# Altium integrated library TI Amplifiers and Linear Special Function Amplifier.IntLib: 708 symbols (part 8 of 47)
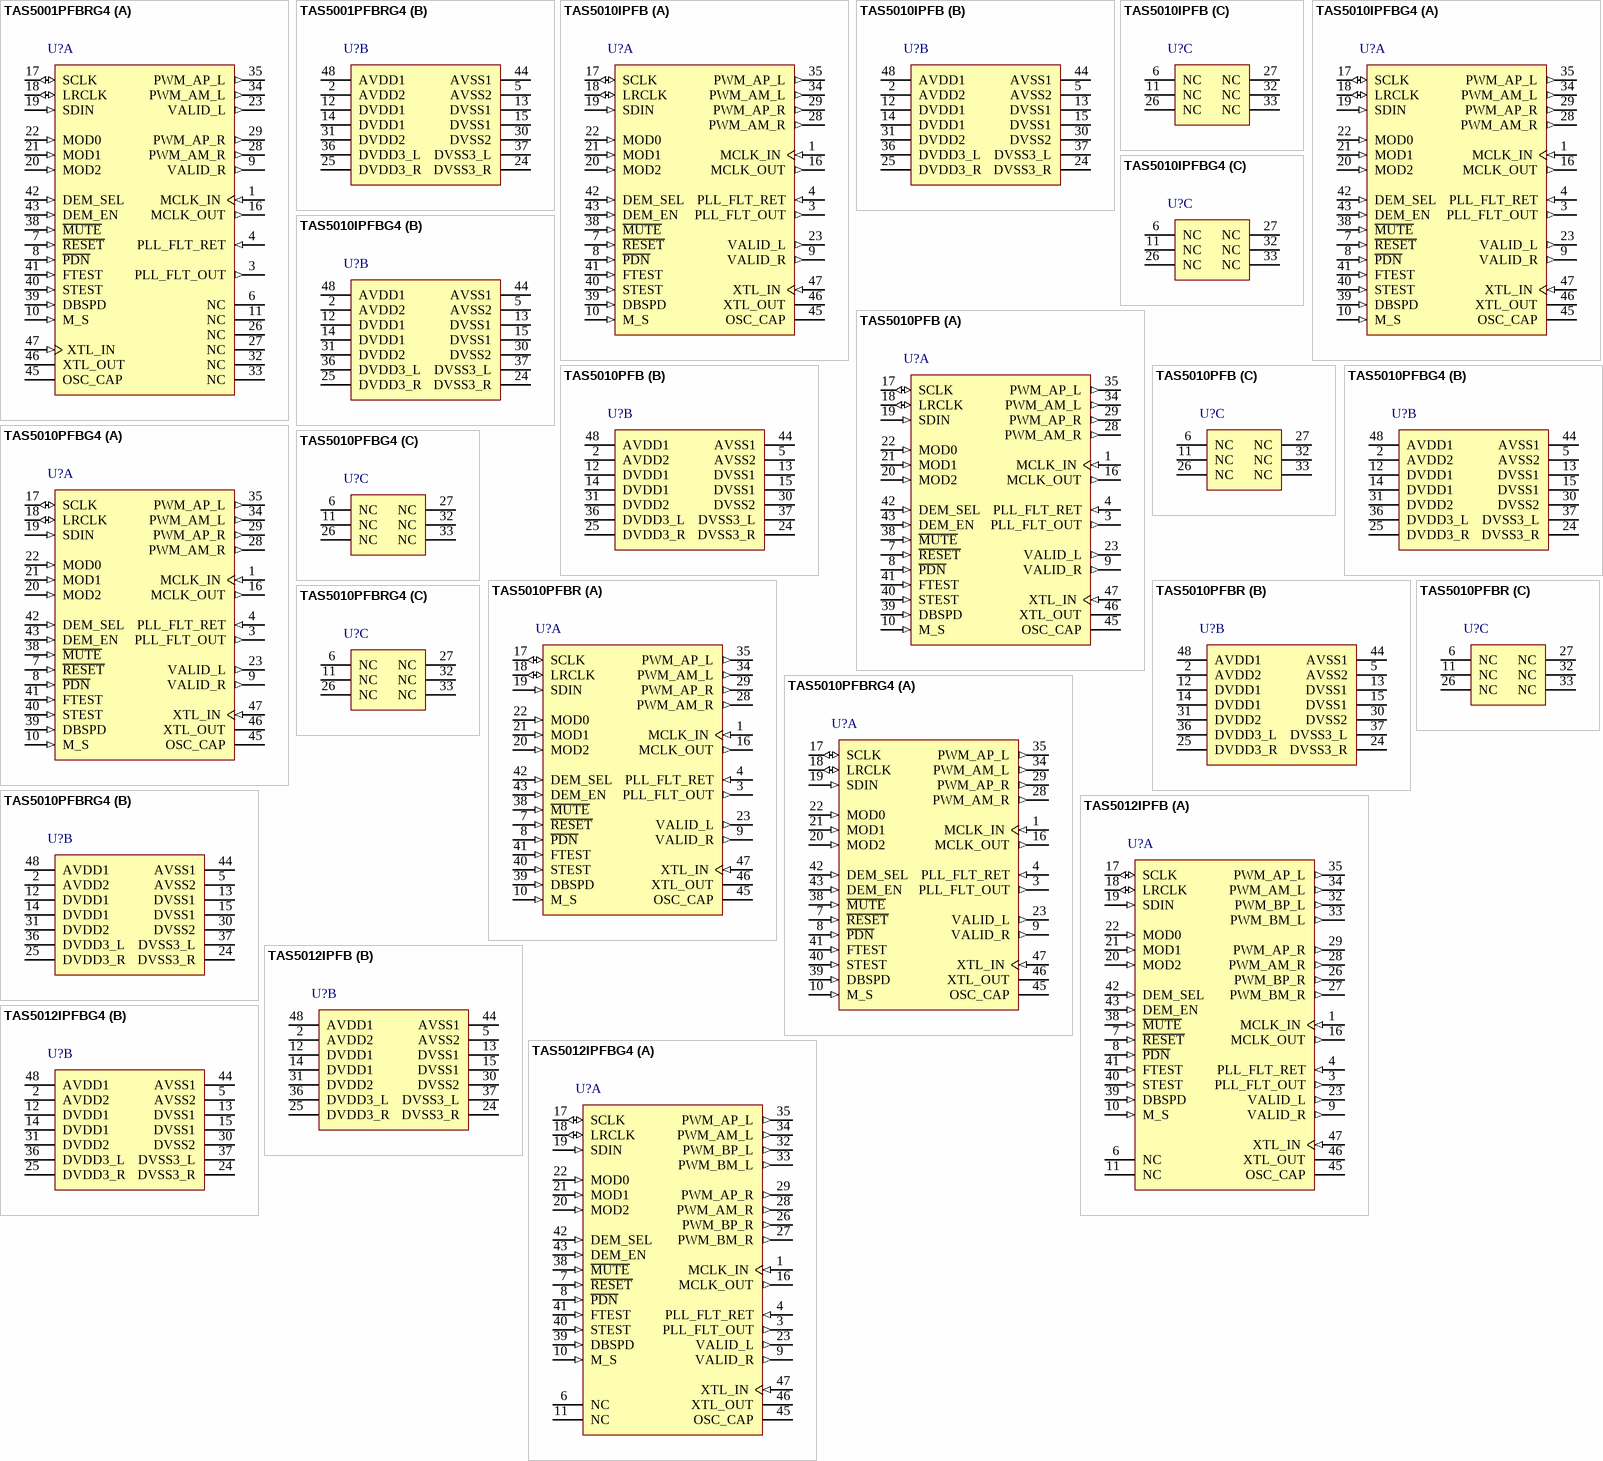
[diagram p46: symbols TAS5001PFBRG4 to TAS5012IPFBG4]

## TAS5010PFBG4
designator U?
Digital Audio PWM Processor, 0 to 70 degC, 48-pin QFP (PFB48), Green (RoHS & no Sb/Br); Manufacturer: Texas Instruments; PartNumber: TAS5010PFBG4; Audio Output Channels (PWM)(#): 2; Data Resolution: 16, 20, 24; Digital Input: TRUE; Digital Supply (up to 5 V)(Max)(V): 3.6; Digital Supply (up to 5 V)(Min)(V): 3; Dynamic Range(dB): 96; Fs(Max)(kHz): 192; Fs(Min)(kHz): 44.1; Mute: Yes; Serial Interface: I2S, R, L, DSP; DatasheetVersion: SLAS328; PackageVersion: 4073176/B, 10/1996; PackageReference: PFB48; PackageDescription: 48-Pin Plastic Flat Pack, Body 7 x 7 mm, Pitch 0.5 mm; Supplier 1: Digi-Key; Supplier Part Number 1: TAS5010PFBG4-ND; Supplier 2: Newark; Supplier Part Number 2: 66K4309; Supplier 3: Mouser; Supplier Part Number 3: 595-TAS5010PFBG4; Eco-Plan: Green (RoHS & no Sb/Br); Loudness Compensation: No; Output: PWM; PurePath: TRUE; SubFamily: PWM Processor; Mounting Technology: Surface Mount; Code_JEDEC: MS-026; ComponentLink1Description: Manufacturer URL; ComponentLink1URL: http://www.ti.com/; ComponentLink2Description: Datasheet; ComponentLink2URL: http://www.ti.com/general/docs/lit/getliterature.tsp?genericPartNumber=TAS5010&fileType=pdf; ComponentLink3Description: Package Specification; ComponentLink3URL: http://www.ti.com/lit/ml/mtqf019a/mtqf019a.pdf
footprint TI-PFB48_N (QFP, 48-Leads, Body 7x7mm, Pitch 0.5mm, IPC Medium Density)
footprint TI-PFB48_L (QFP, 48-Leads, Body 7x7mm, Pitch 0.5mm, IPC High Density)
footprint TI-PFB48_M (QFP, 48-Leads, Body 7x7mm, Pitch 0.5mm, IPC Low Density)
part A pins: 1 MCLK_IN (in) "MCLK input", 3 PLL_FLT_OUT (out) "Output terminal for external PLL filter", 4 PLL_FLT_RET (in) "Return for external PLL filter", 7 ~{RESET} (in) "Reset (active low)", 8 ~{PDN} (in) "Power down, active low", 9 VALID_R (out) "PWM right outputs valid (active high)", 10 M_S (in) "Master/slave, master=1, slave=0", 16 MCLK_OUT (out) "Buffered system clock output if M_S = 1; otherwise set to 0", 17 SCLK (io) "Shift clock (input when M_S = 0, output when M_S = 1)", 18 LRCLK (io) "Left/right clock (input when M_S = 0; output when M_S = 1)", 19 SDIN (in) "Stereo serial audio data input", 20 MOD2 (in) "Serial interface selection pin, bit 2 (MSB)", 21 MOD1 (in) "Serial interface selection pin, bit 1", 22 MOD0 (in) "Serial interface selection pin, bit 0", 23 VALID_L (out) "PWM left outputs valid (active high)", 28 PWM_AM_R (out) "PWM right output (differential -)", 29 PWM_AP_R (out) "PWM right output (differential +)", 34 PWM_AM_L (out) "PWM left output (differential -)", 35 PWM_AP_L (out) "PWM left output (differential +)", 38 ~{MUTE} (in) "Muted signal = 0, normal mode = 1", 39 DBSPD (in) "Indicates sample rate is double speed (88.2 kHz or 96 kHz), active high", 40 STEST (in) "Tied to DVSS1 for normal operation", 41 FTEST (in) "Tied to DVSS1 for normal operation", 42 DEM_SEL (in) "De-emphasis select (0 = 44.1 kHz, 1 = 48 kHz)", 43 DEM_EN (in) "De-emphasis enable, active high", 45 OSC_CAP "Oscillator cap return", 46 XTL_OUT "Crystal output (not for external usage).NC when XTL_IN is MCLK input", 47 XTL_IN (in) "Crystal or clock input (MCLK input)"
part B pins: 2 AVDD2 (power) "Analog supply for PLL", 5 AVSS2 (power) "Analog ground for PLL", 12 DVDD1 (power) "Digital voltage supply for logic", 13 DVSS1 (power) "Digital ground for logic", 14 DVDD1 (power) "Digital voltage supply for logic", 15 DVSS1 (power) "Digital ground for logic", 24 DVSS3_R (power) "Digital ground for PWM output (right)", 25 DVDD3_R (power) "Digital voltage supply for PWM output (right)", 30 DVSS2 (power) "Digital ground for PWM reclocking", 31 DVDD2 (power) "Digital voltage supply for PWM reclocking", 36 DVDD3_L (power) "Digital voltage supply for PWM output (left)", 37 DVSS3_L (power) "Digital ground for PWM output (left)", 44 AVSS1 (power) "Analog ground for oscillator", 48 AVDD1 (power) "Analog supply for oscillator"
part C pins: 6 NC "No connection", 11 NC "No connection", 26 NC "No connection", 27 NC "No connection", 32 NC "No connection", 33 NC "No connection"

## TAS5010PFBR
designator U?
Digital Audio PWM Processor, 0 to 70 degC, 48-pin QFP (PFB48), Green (RoHS & no Sb/Br); Manufacturer: Texas Instruments; PartNumber: TAS5010PFBR; Audio Output Channels (PWM)(#): 2; Data Resolution: 16, 20, 24; Digital Input: TRUE; Digital Supply (up to 5 V)(Max)(V): 3.6; Digital Supply (up to 5 V)(Min)(V): 3; Dynamic Range(dB): 96; Fs(Max)(kHz): 192; Fs(Min)(kHz): 44.1; Mute: Yes; Serial Interface: I2S, R, L, DSP; DatasheetVersion: SLAS328; PackageVersion: 4073176/B, 10/1996; PackageReference: PFB48; PackageDescription: 48-Pin Plastic Flat Pack, Body 7 x 7 mm, Pitch 0.5 mm; Supplier 1: Digi-Key; Supplier Part Number 1: TAS5010PFBR-ND; Supplier 2: Newark; Supplier Part Number 2: 76C5972; Supplier 3: Mouser; Supplier Part Number 3: 595-TAS5010PFBR; Eco-Plan: Green (RoHS & no Sb/Br); Loudness Compensation: No; Output: PWM; PurePath: TRUE; SubFamily: PWM Processor; Mounting Technology: Surface Mount; Code_JEDEC: MS-026; ComponentLink1Description: Manufacturer URL; ComponentLink1URL: http://www.ti.com/; ComponentLink2Description: Datasheet; ComponentLink2URL: http://www.ti.com/general/docs/lit/getliterature.tsp?genericPartNumber=TAS5010&fileType=pdf; ComponentLink3Description: Package Specification; ComponentLink3URL: http://www.ti.com/lit/ml/mtqf019a/mtqf019a.pdf
footprint TI-PFB48_N (QFP, 48-Leads, Body 7x7mm, Pitch 0.5mm, IPC Medium Density)
footprint TI-PFB48_L (QFP, 48-Leads, Body 7x7mm, Pitch 0.5mm, IPC High Density)
footprint TI-PFB48_M (QFP, 48-Leads, Body 7x7mm, Pitch 0.5mm, IPC Low Density)
part A pins: 1 MCLK_IN (in) "MCLK input", 3 PLL_FLT_OUT (out) "Output terminal for external PLL filter", 4 PLL_FLT_RET (in) "Return for external PLL filter", 7 ~{RESET} (in) "Reset (active low)", 8 ~{PDN} (in) "Power down, active low", 9 VALID_R (out) "PWM right outputs valid (active high)", 10 M_S (in) "Master/slave, master=1, slave=0", 16 MCLK_OUT (out) "Buffered system clock output if M_S = 1; otherwise set to 0", 17 SCLK (io) "Shift clock (input when M_S = 0, output when M_S = 1)", 18 LRCLK (io) "Left/right clock (input when M_S = 0; output when M_S = 1)", 19 SDIN (in) "Stereo serial audio data input", 20 MOD2 (in) "Serial interface selection pin, bit 2 (MSB)", 21 MOD1 (in) "Serial interface selection pin, bit 1", 22 MOD0 (in) "Serial interface selection pin, bit 0", 23 VALID_L (out) "PWM left outputs valid (active high)", 28 PWM_AM_R (out) "PWM right output (differential -)", 29 PWM_AP_R (out) "PWM right output (differential +)", 34 PWM_AM_L (out) "PWM left output (differential -)", 35 PWM_AP_L (out) "PWM left output (differential +)", 38 ~{MUTE} (in) "Muted signal = 0, normal mode = 1", 39 DBSPD (in) "Indicates sample rate is double speed (88.2 kHz or 96 kHz), active high", 40 STEST (in) "Tied to DVSS1 for normal operation", 41 FTEST (in) "Tied to DVSS1 for normal operation", 42 DEM_SEL (in) "De-emphasis select (0 = 44.1 kHz, 1 = 48 kHz)", 43 DEM_EN (in) "De-emphasis enable, active high", 45 OSC_CAP "Oscillator cap return", 46 XTL_OUT "Crystal output (not for external usage).NC when XTL_IN is MCLK input", 47 XTL_IN (in) "Crystal or clock input (MCLK input)"
part B pins: 2 AVDD2 (power) "Analog supply for PLL", 5 AVSS2 (power) "Analog ground for PLL", 12 DVDD1 (power) "Digital voltage supply for logic", 13 DVSS1 (power) "Digital ground for logic", 14 DVDD1 (power) "Digital voltage supply for logic", 15 DVSS1 (power) "Digital ground for logic", 24 DVSS3_R (power) "Digital ground for PWM output (right)", 25 DVDD3_R (power) "Digital voltage supply for PWM output (right)", 30 DVSS2 (power) "Digital ground for PWM reclocking", 31 DVDD2 (power) "Digital voltage supply for PWM reclocking", 36 DVDD3_L (power) "Digital voltage supply for PWM output (left)", 37 DVSS3_L (power) "Digital ground for PWM output (left)", 44 AVSS1 (power) "Analog ground for oscillator", 48 AVDD1 (power) "Analog supply for oscillator"
part C pins: 6 NC "No connection", 11 NC "No connection", 26 NC "No connection", 27 NC "No connection", 32 NC "No connection", 33 NC "No connection"

## TAS5010PFBRG4
designator U?
Digital Audio PWM Processor, 0 to 70 degC, 48-pin QFP (PFB48), Green (RoHS & no Sb/Br); Manufacturer: Texas Instruments; PartNumber: TAS5010PFBRG4; Audio Output Channels (PWM)(#): 2; Data Resolution: 16, 20, 24; Digital Input: TRUE; Digital Supply (up to 5 V)(Max)(V): 3.6; Digital Supply (up to 5 V)(Min)(V): 3; Dynamic Range(dB): 96; Fs(Max)(kHz): 192; Fs(Min)(kHz): 44.1; Mute: Yes; Serial Interface: I2S, R, L, DSP; DatasheetVersion: SLAS328; PackageVersion: 4073176/B, 10/1996; PackageReference: PFB48; PackageDescription: 48-Pin Plastic Flat Pack, Body 7 x 7 mm, Pitch 0.5 mm; Supplier 1: Digi-Key; Supplier Part Number 1: TAS5010PFBRG4-ND; Supplier 2: Mouser; Supplier Part Number 2: 595-TAS5010PFBRG4; Eco-Plan: Green (RoHS & no Sb/Br); Loudness Compensation: No; Output: PWM; PurePath: TRUE; SubFamily: PWM Processor; Mounting Technology: Surface Mount; Code_JEDEC: MS-026; ComponentLink1Description: Manufacturer URL; ComponentLink1URL: http://www.ti.com/; ComponentLink2Description: Datasheet; ComponentLink2URL: http://www.ti.com/general/docs/lit/getliterature.tsp?genericPartNumber=TAS5010&fileType=pdf; ComponentLink3Description: Package Specification; ComponentLink3URL: http://www.ti.com/lit/ml/mtqf019a/mtqf019a.pdf
footprint TI-PFB48_N (QFP, 48-Leads, Body 7x7mm, Pitch 0.5mm, IPC Medium Density)
footprint TI-PFB48_L (QFP, 48-Leads, Body 7x7mm, Pitch 0.5mm, IPC High Density)
footprint TI-PFB48_M (QFP, 48-Leads, Body 7x7mm, Pitch 0.5mm, IPC Low Density)
part A pins: 1 MCLK_IN (in) "MCLK input", 3 PLL_FLT_OUT (out) "Output terminal for external PLL filter", 4 PLL_FLT_RET (in) "Return for external PLL filter", 7 ~{RESET} (in) "Reset (active low)", 8 ~{PDN} (in) "Power down, active low", 9 VALID_R (out) "PWM right outputs valid (active high)", 10 M_S (in) "Master/slave, master=1, slave=0", 16 MCLK_OUT (out) "Buffered system clock output if M_S = 1; otherwise set to 0", 17 SCLK (io) "Shift clock (input when M_S = 0, output when M_S = 1)", 18 LRCLK (io) "Left/right clock (input when M_S = 0; output when M_S = 1)", 19 SDIN (in) "Stereo serial audio data input", 20 MOD2 (in) "Serial interface selection pin, bit 2 (MSB)", 21 MOD1 (in) "Serial interface selection pin, bit 1", 22 MOD0 (in) "Serial interface selection pin, bit 0", 23 VALID_L (out) "PWM left outputs valid (active high)", 28 PWM_AM_R (out) "PWM right output (differential -)", 29 PWM_AP_R (out) "PWM right output (differential +)", 34 PWM_AM_L (out) "PWM left output (differential -)", 35 PWM_AP_L (out) "PWM left output (differential +)", 38 ~{MUTE} (in) "Muted signal = 0, normal mode = 1", 39 DBSPD (in) "Indicates sample rate is double speed (88.2 kHz or 96 kHz), active high", 40 STEST (in) "Tied to DVSS1 for normal operation", 41 FTEST (in) "Tied to DVSS1 for normal operation", 42 DEM_SEL (in) "De-emphasis select (0 = 44.1 kHz, 1 = 48 kHz)", 43 DEM_EN (in) "De-emphasis enable, active high", 45 OSC_CAP "Oscillator cap return", 46 XTL_OUT "Crystal output (not for external usage).NC when XTL_IN is MCLK input", 47 XTL_IN (in) "Crystal or clock input (MCLK input)"
part B pins: 2 AVDD2 (power) "Analog supply for PLL", 5 AVSS2 (power) "Analog ground for PLL", 12 DVDD1 (power) "Digital voltage supply for logic", 13 DVSS1 (power) "Digital ground for logic", 14 DVDD1 (power) "Digital voltage supply for logic", 15 DVSS1 (power) "Digital ground for logic", 24 DVSS3_R (power) "Digital ground for PWM output (right)", 25 DVDD3_R (power) "Digital voltage supply for PWM output (right)", 30 DVSS2 (power) "Digital ground for PWM reclocking", 31 DVDD2 (power) "Digital voltage supply for PWM reclocking", 36 DVDD3_L (power) "Digital voltage supply for PWM output (left)", 37 DVSS3_L (power) "Digital ground for PWM output (left)", 44 AVSS1 (power) "Analog ground for oscillator", 48 AVDD1 (power) "Analog supply for oscillator"
part C pins: 6 NC "No connection", 11 NC "No connection", 26 NC "No connection", 27 NC "No connection", 32 NC "No connection", 33 NC "No connection"

## TAS5012IPFB
designator U?
Digital Audio PWM Processor, -40 to 85 degC, 48-pin QFP (PFB48), Green (RoHS & no Sb/Br); Manufacturer: Texas Instruments; PartNumber: TAS5012IPFB; Audio Output Channels (PWM)(#): 2; Data Resolution: 16, 20, 24; Digital Input: TRUE; Digital Supply (up to 5 V)(Max)(V): 3.6; Digital Supply (up to 5 V)(Min)(V): 3; Dynamic Range(dB): 102; Fs(Max)(kHz): 192; Fs(Min)(kHz): 32; Mute: Yes; Serial Interface: I2S, R, L, DSP; DatasheetVersion: SLES006A; PackageVersion: 4073176/B, 10/1996; PackageReference: PFB48; PackageDescription: 48-Pin Plastic Flat Pack, Body 7 x 7 mm, Pitch 0.5 mm; Supplier 1: Digi-Key; Supplier Part Number 1: 296-12558-ND; Supplier 2: Farnell; Supplier Part Number 2: 1532828; Supplier 3: Mouser; Supplier Part Number 3: 595-TAS5012IPFB; Eco-Plan: Green (RoHS & no Sb/Br); Loudness Compensation: No; Output: PWM; PurePath: TRUE; SubFamily: PWM Processor; Mounting Technology: Surface Mount; Code_JEDEC: MS-026; ComponentLink1Description: Manufacturer URL; ComponentLink1URL: http://www.ti.com/; ComponentLink2Description: Datasheet; ComponentLink2URL: http://www.ti.com/general/docs/lit/getliterature.tsp?genericPartNumber=TAS5012&fileType=pdf; ComponentLink3Description: Package Specification; ComponentLink3URL: http://www.ti.com/lit/ml/mtqf019a/mtqf019a.pdf
footprint TI-PFB48_N (QFP, 48-Leads, Body 7x7mm, Pitch 0.5mm, IPC Medium Density)
footprint TI-PFB48_L (QFP, 48-Leads, Body 7x7mm, Pitch 0.5mm, IPC High Density)
footprint TI-PFB48_M (QFP, 48-Leads, Body 7x7mm, Pitch 0.5mm, IPC Low Density)
part A pins: 1 MCLK_IN (in) "MCLK input", 3 PLL_FLT_OUT (out) "Output terminal for external PLL filter", 4 PLL_FLT_RET (in) "Return for external PLL filter", 6 NC "No connection", 7 ~{RESET} (in) "Reset (active low)", 8 ~{PDN} (in) "Power down, active low", 9 VALID_R (out) "PWM right outputs valid (active high)", 10 M_S (in) "Master/slave, master=1, slave=0", 11 NC "No connection", 16 MCLK_OUT (out) "Buffered system clock output if M_S = 1; otherwise set to 0", 17 SCLK (io) "Shift clock (input when M_S = 0, output when M_S = 1)", 18 LRCLK (io) "Left/right clock (input when M_S = 0; output when M_S = 1)", 19 SDIN (in) "Stereo serial audio data input", 20 MOD2 (in) "Serial interface selection pin, bit 2 (MSB)", 21 MOD1 (in) "Serial interface selection pin, bit 1", 22 MOD0 (in) "Serial interface selection pin, bit 0", 23 VALID_L (out) "PWM left outputs valid (active high)", 26 PWM_BP_R (out) "PWM right output B (differential +)", 27 PWM_BM_R (out) "PWM right output B (differential -)", 28 PWM_AM_R (out) "PWM right output A (differential -)", 29 PWM_AP_R (out) "PWM right output A (differential +)", 32 PWM_BP_L (out) "PWM left output B (differential +)", 33 PWM_BM_L (out) "PWM left output B (differential -)", 34 PWM_AM_L (out) "PWM left output A (differential -)", 35 PWM_AP_L (out) "PWM left output A (differential +)", 38 ~{MUTE} (in) "Muted signal = 0, normal mode = 1", 39 DBSPD (in) "Indicates sample rate is double speed (88.2 kHz or 96 kHz), active high", 40 STEST (in) "Tied to DVSS1 for normal operation", 41 FTEST (in) "Tied to DVSS1 for normal operation", 42 DEM_SEL (in) "De-emphasis select (0 = 44.1 kHz, 1 = 48 kHz)", 43 DEM_EN (in) "De-emphasis enable, active high", 45 OSC_CAP "Oscillator cap return", 46 XTL_OUT "Crystal output (not for external usage). NC when XTL_IN is MCLK input", 47 XTL_IN (in) "Crystal or clock input (MCLK input)"
part B pins: 2 AVDD2 (power) "Analog supply for PLL", 5 AVSS2 (power) "Analog ground for PLL", 12 DVDD1 (power) "Digital voltage supply for logic", 13 DVSS1 (power) "Digital ground for logic", 14 DVDD1 (power) "Digital voltage supply for logic", 15 DVSS1 (power) "Digital ground for logic", 24 DVSS3_R (power) "Digital ground for PWM output (right)", 25 DVDD3_R (power) "Digital voltage supply for PWM output (right)", 30 DVSS2 (power) "Digital ground for PWM reclocking", 31 DVDD2 (power) "Digital voltage supply for PWM reclocking", 36 DVDD3_L (power) "Digital voltage supply for PWM output (left)", 37 DVSS3_L (power) "Digital ground for PWM output (left)", 44 AVSS1 (power) "Analog ground for oscillator", 48 AVDD1 (power) "Analog supply for oscillator"

## TAS5012IPFBG4
designator U?
Digital Audio PWM Processor, -40 to 85 degC, 48-pin QFP (PFB48), Green (RoHS & no Sb/Br); Manufacturer: Texas Instruments; PartNumber: TAS5012IPFBG4; Audio Output Channels (PWM)(#): 2; Data Resolution: 16, 20, 24; Digital Input: TRUE; Digital Supply (up to 5 V)(Max)(V): 3.6; Digital Supply (up to 5 V)(Min)(V): 3; Dynamic Range(dB): 102; Fs(Max)(kHz): 192; Fs(Min)(kHz): 32; Mute: Yes; Serial Interface: I2S, R, L, DSP; DatasheetVersion: SLES006A; PackageVersion: 4073176/B, 10/1996; PackageReference: PFB48; PackageDescription: 48-Pin Plastic Flat Pack, Body 7 x 7 mm, Pitch 0.5 mm; Supplier 1: Digi-Key; Supplier Part Number 1: TAS5012IPFBG4-ND; Supplier 2: Mouser; Supplier Part Number 2: 595-TAS5012IPFBG4; Eco-Plan: Green (RoHS & no Sb/Br); Loudness Compensation: No; Output: PWM; PurePath: TRUE; SubFamily: PWM Processor; Mounting Technology: Surface Mount; Code_JEDEC: MS-026; ComponentLink1Description: Manufacturer URL; ComponentLink1URL: http://www.ti.com/; ComponentLink2Description: Datasheet; ComponentLink2URL: http://www.ti.com/general/docs/lit/getliterature.tsp?genericPartNumber=TAS5012&fileType=pdf; ComponentLink3Description: Package Specification; ComponentLink3URL: http://www.ti.com/lit/ml/mtqf019a/mtqf019a.pdf
footprint TI-PFB48_N (QFP, 48-Leads, Body 7x7mm, Pitch 0.5mm, IPC Medium Density)
footprint TI-PFB48_L (QFP, 48-Leads, Body 7x7mm, Pitch 0.5mm, IPC High Density)
footprint TI-PFB48_M (QFP, 48-Leads, Body 7x7mm, Pitch 0.5mm, IPC Low Density)
part A pins: 1 MCLK_IN (in) "MCLK input", 3 PLL_FLT_OUT (out) "Output terminal for external PLL filter", 4 PLL_FLT_RET (in) "Return for external PLL filter", 6 NC "No connection", 7 ~{RESET} (in) "Reset (active low)", 8 ~{PDN} (in) "Power down, active low", 9 VALID_R (out) "PWM right outputs valid (active high)", 10 M_S (in) "Master/slave, master=1, slave=0", 11 NC "No connection", 16 MCLK_OUT (out) "Buffered system clock output if M_S = 1; otherwise set to 0", 17 SCLK (io) "Shift clock (input when M_S = 0, output when M_S = 1)", 18 LRCLK (io) "Left/right clock (input when M_S = 0; output when M_S = 1)", 19 SDIN (in) "Stereo serial audio data input", 20 MOD2 (in) "Serial interface selection pin, bit 2 (MSB)", 21 MOD1 (in) "Serial interface selection pin, bit 1", 22 MOD0 (in) "Serial interface selection pin, bit 0", 23 VALID_L (out) "PWM left outputs valid (active high)", 26 PWM_BP_R (out) "PWM right output B (differential +)", 27 PWM_BM_R (out) "PWM right output B (differential -)", 28 PWM_AM_R (out) "PWM right output A (differential -)", 29 PWM_AP_R (out) "PWM right output A (differential +)", 32 PWM_BP_L (out) "PWM left output B (differential +)", 33 PWM_BM_L (out) "PWM left output B (differential -)", 34 PWM_AM_L (out) "PWM left output A (differential -)", 35 PWM_AP_L (out) "PWM left output A (differential +)", 38 ~{MUTE} (in) "Muted signal = 0, normal mode = 1", 39 DBSPD (in) "Indicates sample rate is double speed (88.2 kHz or 96 kHz), active high", 40 STEST (in) "Tied to DVSS1 for normal operation", 41 FTEST (in) "Tied to DVSS1 for normal operation", 42 DEM_SEL (in) "De-emphasis select (0 = 44.1 kHz, 1 = 48 kHz)", 43 DEM_EN (in) "De-emphasis enable, active high", 45 OSC_CAP "Oscillator cap return", 46 XTL_OUT "Crystal output (not for external usage). NC when XTL_IN is MCLK input", 47 XTL_IN (in) "Crystal or clock input (MCLK input)"
part B pins: 2 AVDD2 (power) "Analog supply for PLL", 5 AVSS2 (power) "Analog ground for PLL", 12 DVDD1 (power) "Digital voltage supply for logic", 13 DVSS1 (power) "Digital ground for logic", 14 DVDD1 (power) "Digital voltage supply for logic", 15 DVSS1 (power) "Digital ground for logic", 24 DVSS3_R (power) "Digital ground for PWM output (right)", 25 DVDD3_R (power) "Digital voltage supply for PWM output (right)", 30 DVSS2 (power) "Digital ground for PWM reclocking", 31 DVDD2 (power) "Digital voltage supply for PWM reclocking", 36 DVDD3_L (power) "Digital voltage supply for PWM output (left)", 37 DVSS3_L (power) "Digital ground for PWM output (left)", 44 AVSS1 (power) "Analog ground for oscillator", 48 AVDD1 (power) "Analog supply for oscillator"

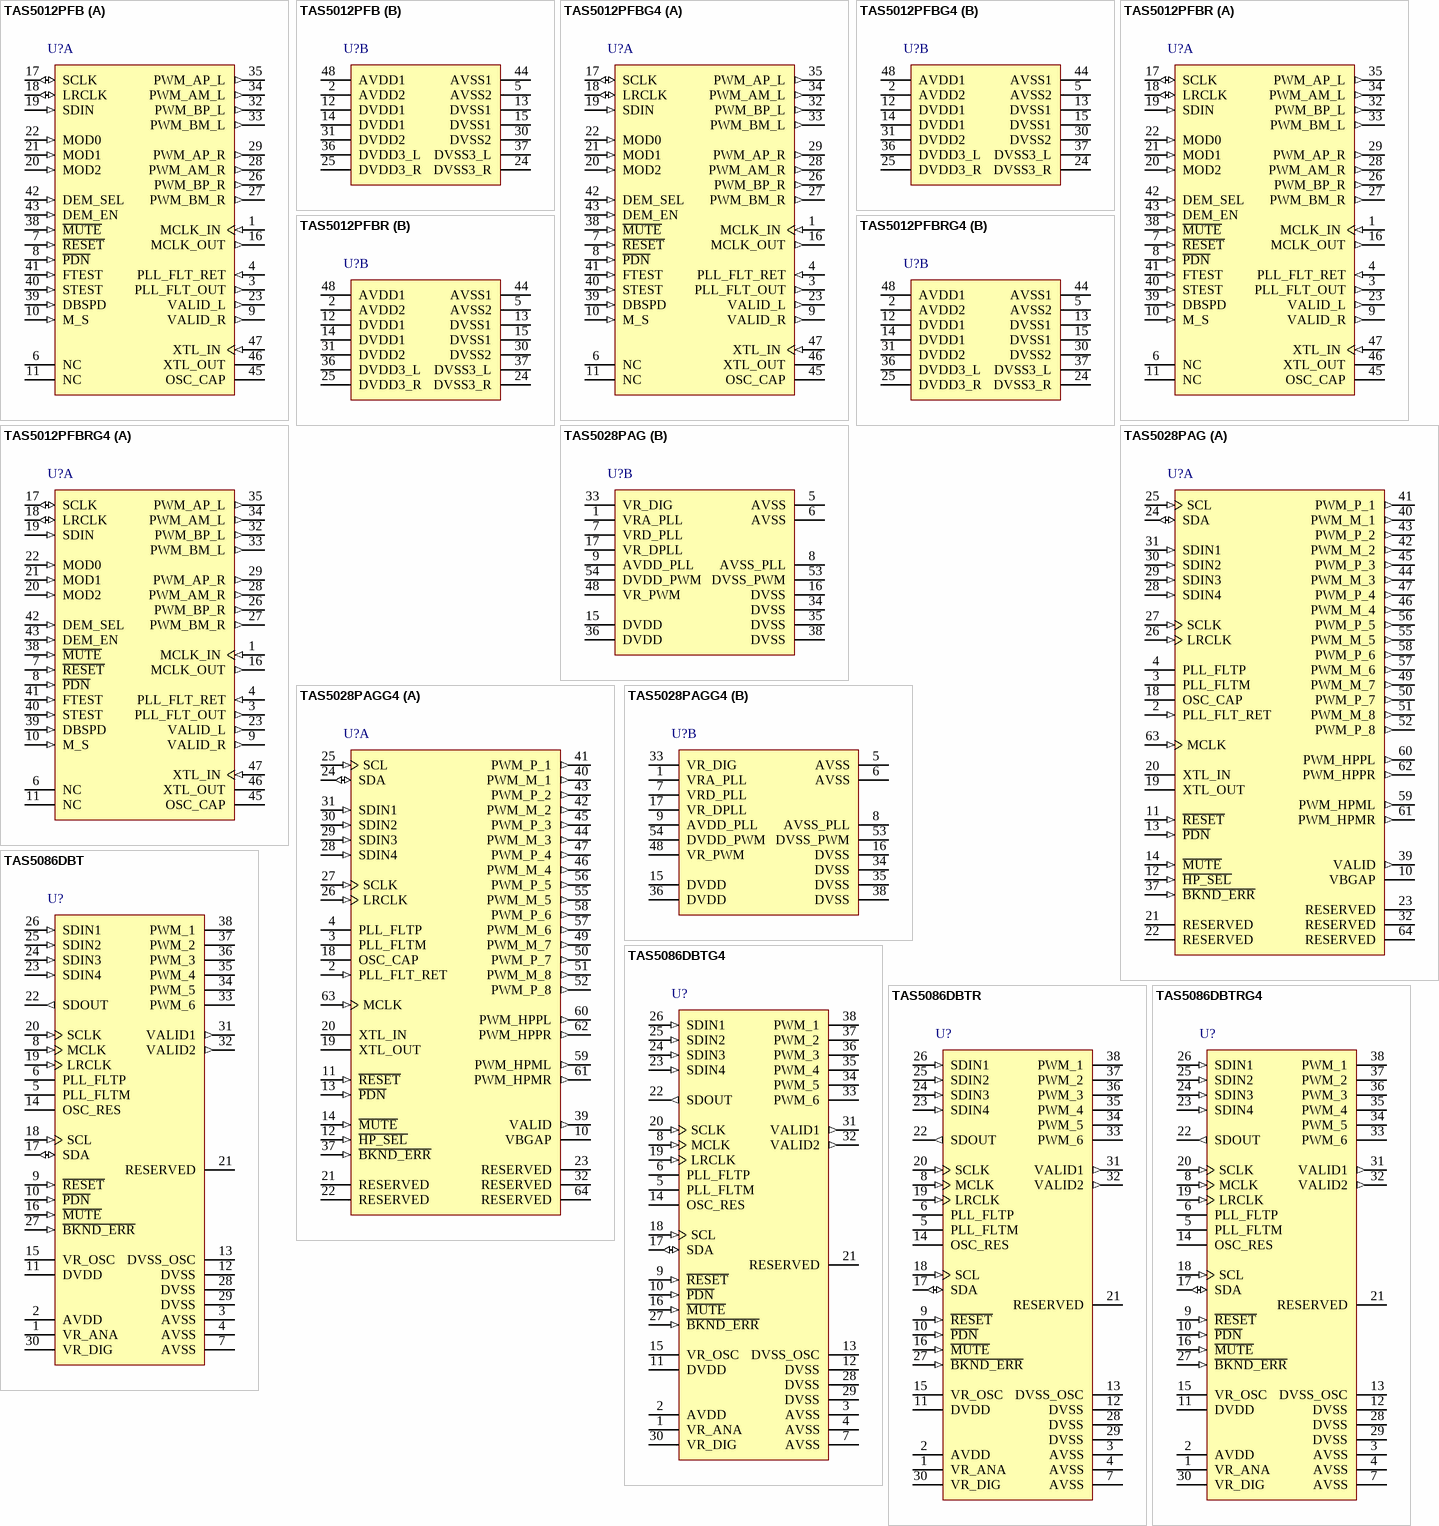
[diagram p7: symbols TAS5012PFB to TAS5086DBTRG4]

## TAS5012PFB
designator U?
Digital Audio PWM Processor, 0 to 70 degC, 48-pin QFP (PFB48), Green (RoHS & no Sb/Br); Manufacturer: Texas Instruments; PartNumber: TAS5012PFB; Audio Output Channels (PWM)(#): 2; Data Resolution: 16, 20, 24; Digital Input: TRUE; Digital Supply (up to 5 V)(Max)(V): 3.6; Digital Supply (up to 5 V)(Min)(V): 3; Dynamic Range(dB): 102; Fs(Max)(kHz): 192; Fs(Min)(kHz): 32; Mute: Yes; Serial Interface: I2S, R, L, DSP; DatasheetVersion: SLES006A; PackageVersion: 4073176/B, 10/1996; PackageReference: PFB48; PackageDescription: 48-Pin Plastic Flat Pack, Body 7 x 7 mm, Pitch 0.5 mm; Supplier 1: Digi-Key; Supplier Part Number 1: 296-12214-ND; Supplier 2: Mouser; Supplier Part Number 2: 595-TAS5012PFB; Eco-Plan: Green (RoHS & no Sb/Br); Loudness Compensation: No; Output: PWM; PurePath: TRUE; SubFamily: PWM Processor; Mounting Technology: Surface Mount; Code_JEDEC: MS-026; ComponentLink1Description: Manufacturer URL; ComponentLink1URL: http://www.ti.com/; ComponentLink2Description: Datasheet; ComponentLink2URL: http://www.ti.com/general/docs/lit/getliterature.tsp?genericPartNumber=TAS5012&fileType=pdf; ComponentLink3Description: Package Specification; ComponentLink3URL: http://www.ti.com/lit/ml/mtqf019a/mtqf019a.pdf
footprint TI-PFB48_N (QFP, 48-Leads, Body 7x7mm, Pitch 0.5mm, IPC Medium Density)
footprint TI-PFB48_L (QFP, 48-Leads, Body 7x7mm, Pitch 0.5mm, IPC High Density)
footprint TI-PFB48_M (QFP, 48-Leads, Body 7x7mm, Pitch 0.5mm, IPC Low Density)
part A pins: 1 MCLK_IN (in) "MCLK input", 3 PLL_FLT_OUT (out) "Output terminal for external PLL filter", 4 PLL_FLT_RET (in) "Return for external PLL filter", 6 NC "No connection", 7 ~{RESET} (in) "Reset (active low)", 8 ~{PDN} (in) "Power down, active low", 9 VALID_R (out) "PWM right outputs valid (active high)", 10 M_S (in) "Master/slave, master=1, slave=0", 11 NC "No connection", 16 MCLK_OUT (out) "Buffered system clock output if M_S = 1; otherwise set to 0", 17 SCLK (io) "Shift clock (input when M_S = 0, output when M_S = 1)", 18 LRCLK (io) "Left/right clock (input when M_S = 0; output when M_S = 1)", 19 SDIN (in) "Stereo serial audio data input", 20 MOD2 (in) "Serial interface selection pin, bit 2 (MSB)", 21 MOD1 (in) "Serial interface selection pin, bit 1", 22 MOD0 (in) "Serial interface selection pin, bit 0", 23 VALID_L (out) "PWM left outputs valid (active high)", 26 PWM_BP_R (out) "PWM right output B (differential +)", 27 PWM_BM_R (out) "PWM right output B (differential -)", 28 PWM_AM_R (out) "PWM right output A (differential -)", 29 PWM_AP_R (out) "PWM right output A (differential +)", 32 PWM_BP_L (out) "PWM left output B (differential +)", 33 PWM_BM_L (out) "PWM left output B (differential -)", 34 PWM_AM_L (out) "PWM left output A (differential -)", 35 PWM_AP_L (out) "PWM left output A (differential +)", 38 ~{MUTE} (in) "Muted signal = 0, normal mode = 1", 39 DBSPD (in) "Indicates sample rate is double speed (88.2 kHz or 96 kHz), active high", 40 STEST (in) "Tied to DVSS1 for normal operation", 41 FTEST (in) "Tied to DVSS1 for normal operation", 42 DEM_SEL (in) "De-emphasis select (0 = 44.1 kHz, 1 = 48 kHz)", 43 DEM_EN (in) "De-emphasis enable, active high", 45 OSC_CAP "Oscillator cap return", 46 XTL_OUT "Crystal output (not for external usage). NC when XTL_IN is MCLK input", 47 XTL_IN (in) "Crystal or clock input (MCLK input)"
part B pins: 2 AVDD2 (power) "Analog supply for PLL", 5 AVSS2 (power) "Analog ground for PLL", 12 DVDD1 (power) "Digital voltage supply for logic", 13 DVSS1 (power) "Digital ground for logic", 14 DVDD1 (power) "Digital voltage supply for logic", 15 DVSS1 (power) "Digital ground for logic", 24 DVSS3_R (power) "Digital ground for PWM output (right)", 25 DVDD3_R (power) "Digital voltage supply for PWM output (right)", 30 DVSS2 (power) "Digital ground for PWM reclocking", 31 DVDD2 (power) "Digital voltage supply for PWM reclocking", 36 DVDD3_L (power) "Digital voltage supply for PWM output (left)", 37 DVSS3_L (power) "Digital ground for PWM output (left)", 44 AVSS1 (power) "Analog ground for oscillator", 48 AVDD1 (power) "Analog supply for oscillator"

## TAS5012PFBG4
designator U?
Digital Audio PWM Processor, 0 to 70 degC, 48-pin QFP (PFB48), Green (RoHS & no Sb/Br); Manufacturer: Texas Instruments; PartNumber: TAS5012PFBG4; Audio Output Channels (PWM)(#): 2; Data Resolution: 16, 20, 24; Digital Input: TRUE; Digital Supply (up to 5 V)(Max)(V): 3.6; Digital Supply (up to 5 V)(Min)(V): 3; Dynamic Range(dB): 102; Fs(Max)(kHz): 192; Fs(Min)(kHz): 32; Mute: Yes; Serial Interface: I2S, R, L, DSP; DatasheetVersion: SLES006A; PackageVersion: 4073176/B, 10/1996; PackageReference: PFB48; PackageDescription: 48-Pin Plastic Flat Pack, Body 7 x 7 mm, Pitch 0.5 mm; Supplier 1: Digi-Key; Supplier Part Number 1: TAS5012PFBG4-ND; Supplier 2: Mouser; Supplier Part Number 2: 595-TAS5012PFBG4; Eco-Plan: Green (RoHS & no Sb/Br); Loudness Compensation: No; Output: PWM; PurePath: TRUE; SubFamily: PWM Processor; Mounting Technology: Surface Mount; Code_JEDEC: MS-026; ComponentLink1Description: Manufacturer URL; ComponentLink1URL: http://www.ti.com/; ComponentLink2Description: Datasheet; ComponentLink2URL: http://www.ti.com/general/docs/lit/getliterature.tsp?genericPartNumber=TAS5012&fileType=pdf; ComponentLink3Description: Package Specification; ComponentLink3URL: http://www.ti.com/lit/ml/mtqf019a/mtqf019a.pdf
footprint TI-PFB48_N (QFP, 48-Leads, Body 7x7mm, Pitch 0.5mm, IPC Medium Density)
footprint TI-PFB48_L (QFP, 48-Leads, Body 7x7mm, Pitch 0.5mm, IPC High Density)
footprint TI-PFB48_M (QFP, 48-Leads, Body 7x7mm, Pitch 0.5mm, IPC Low Density)
part A pins: 1 MCLK_IN (in) "MCLK input", 3 PLL_FLT_OUT (out) "Output terminal for external PLL filter", 4 PLL_FLT_RET (in) "Return for external PLL filter", 6 NC "No connection", 7 ~{RESET} (in) "Reset (active low)", 8 ~{PDN} (in) "Power down, active low", 9 VALID_R (out) "PWM right outputs valid (active high)", 10 M_S (in) "Master/slave, master=1, slave=0", 11 NC "No connection", 16 MCLK_OUT (out) "Buffered system clock output if M_S = 1; otherwise set to 0", 17 SCLK (io) "Shift clock (input when M_S = 0, output when M_S = 1)", 18 LRCLK (io) "Left/right clock (input when M_S = 0; output when M_S = 1)", 19 SDIN (in) "Stereo serial audio data input", 20 MOD2 (in) "Serial interface selection pin, bit 2 (MSB)", 21 MOD1 (in) "Serial interface selection pin, bit 1", 22 MOD0 (in) "Serial interface selection pin, bit 0", 23 VALID_L (out) "PWM left outputs valid (active high)", 26 PWM_BP_R (out) "PWM right output B (differential +)", 27 PWM_BM_R (out) "PWM right output B (differential -)", 28 PWM_AM_R (out) "PWM right output A (differential -)", 29 PWM_AP_R (out) "PWM right output A (differential +)", 32 PWM_BP_L (out) "PWM left output B (differential +)", 33 PWM_BM_L (out) "PWM left output B (differential -)", 34 PWM_AM_L (out) "PWM left output A (differential -)", 35 PWM_AP_L (out) "PWM left output A (differential +)", 38 ~{MUTE} (in) "Muted signal = 0, normal mode = 1", 39 DBSPD (in) "Indicates sample rate is double speed (88.2 kHz or 96 kHz), active high", 40 STEST (in) "Tied to DVSS1 for normal operation", 41 FTEST (in) "Tied to DVSS1 for normal operation", 42 DEM_SEL (in) "De-emphasis select (0 = 44.1 kHz, 1 = 48 kHz)", 43 DEM_EN (in) "De-emphasis enable, active high", 45 OSC_CAP "Oscillator cap return", 46 XTL_OUT "Crystal output (not for external usage). NC when XTL_IN is MCLK input", 47 XTL_IN (in) "Crystal or clock input (MCLK input)"
part B pins: 2 AVDD2 (power) "Analog supply for PLL", 5 AVSS2 (power) "Analog ground for PLL", 12 DVDD1 (power) "Digital voltage supply for logic", 13 DVSS1 (power) "Digital ground for logic", 14 DVDD1 (power) "Digital voltage supply for logic", 15 DVSS1 (power) "Digital ground for logic", 24 DVSS3_R (power) "Digital ground for PWM output (right)", 25 DVDD3_R (power) "Digital voltage supply for PWM output (right)", 30 DVSS2 (power) "Digital ground for PWM reclocking", 31 DVDD2 (power) "Digital voltage supply for PWM reclocking", 36 DVDD3_L (power) "Digital voltage supply for PWM output (left)", 37 DVSS3_L (power) "Digital ground for PWM output (left)", 44 AVSS1 (power) "Analog ground for oscillator", 48 AVDD1 (power) "Analog supply for oscillator"

## TAS5012PFBR
designator U?
Digital Audio PWM Processor, 0 to 70 degC, 48-pin QFP (PFB48), Green (RoHS & no Sb/Br); Manufacturer: Texas Instruments; PartNumber: TAS5012PFBR; Audio Output Channels (PWM)(#): 2; Data Resolution: 16, 20, 24; Digital Input: TRUE; Digital Supply (up to 5 V)(Max)(V): 3.6; Digital Supply (up to 5 V)(Min)(V): 3; Dynamic Range(dB): 102; Fs(Max)(kHz): 192; Fs(Min)(kHz): 32; Mute: Yes; Serial Interface: I2S, R, L, DSP; DatasheetVersion: SLES006A; PackageVersion: 4073176/B, 10/1996; PackageReference: PFB48; PackageDescription: 48-Pin Plastic Flat Pack, Body 7 x 7 mm, Pitch 0.5 mm; Supplier 1: Digi-Key; Supplier Part Number 1: TAS5012PFBR-ND; Supplier 2: Mouser; Supplier Part Number 2: 595-TAS5012PFBR; Eco-Plan: Green (RoHS & no Sb/Br); Loudness Compensation: No; Output: PWM; PurePath: TRUE; SubFamily: PWM Processor; Mounting Technology: Surface Mount; Code_JEDEC: MS-026; ComponentLink1Description: Manufacturer URL; ComponentLink1URL: http://www.ti.com/; ComponentLink2Description: Datasheet; ComponentLink2URL: http://www.ti.com/general/docs/lit/getliterature.tsp?genericPartNumber=TAS5012&fileType=pdf; ComponentLink3Description: Package Specification; ComponentLink3URL: http://www.ti.com/lit/ml/mtqf019a/mtqf019a.pdf
footprint TI-PFB48_N (QFP, 48-Leads, Body 7x7mm, Pitch 0.5mm, IPC Medium Density)
footprint TI-PFB48_L (QFP, 48-Leads, Body 7x7mm, Pitch 0.5mm, IPC High Density)
footprint TI-PFB48_M (QFP, 48-Leads, Body 7x7mm, Pitch 0.5mm, IPC Low Density)
part A pins: 1 MCLK_IN (in) "MCLK input", 3 PLL_FLT_OUT (out) "Output terminal for external PLL filter", 4 PLL_FLT_RET (in) "Return for external PLL filter", 6 NC "No connection", 7 ~{RESET} (in) "Reset (active low)", 8 ~{PDN} (in) "Power down, active low", 9 VALID_R (out) "PWM right outputs valid (active high)", 10 M_S (in) "Master/slave, master=1, slave=0", 11 NC "No connection", 16 MCLK_OUT (out) "Buffered system clock output if M_S = 1; otherwise set to 0", 17 SCLK (io) "Shift clock (input when M_S = 0, output when M_S = 1)", 18 LRCLK (io) "Left/right clock (input when M_S = 0; output when M_S = 1)", 19 SDIN (in) "Stereo serial audio data input", 20 MOD2 (in) "Serial interface selection pin, bit 2 (MSB)", 21 MOD1 (in) "Serial interface selection pin, bit 1", 22 MOD0 (in) "Serial interface selection pin, bit 0", 23 VALID_L (out) "PWM left outputs valid (active high)", 26 PWM_BP_R (out) "PWM right output B (differential +)", 27 PWM_BM_R (out) "PWM right output B (differential -)", 28 PWM_AM_R (out) "PWM right output A (differential -)", 29 PWM_AP_R (out) "PWM right output A (differential +)", 32 PWM_BP_L (out) "PWM left output B (differential +)", 33 PWM_BM_L (out) "PWM left output B (differential -)", 34 PWM_AM_L (out) "PWM left output A (differential -)", 35 PWM_AP_L (out) "PWM left output A (differential +)", 38 ~{MUTE} (in) "Muted signal = 0, normal mode = 1", 39 DBSPD (in) "Indicates sample rate is double speed (88.2 kHz or 96 kHz), active high", 40 STEST (in) "Tied to DVSS1 for normal operation", 41 FTEST (in) "Tied to DVSS1 for normal operation", 42 DEM_SEL (in) "De-emphasis select (0 = 44.1 kHz, 1 = 48 kHz)", 43 DEM_EN (in) "De-emphasis enable, active high", 45 OSC_CAP "Oscillator cap return", 46 XTL_OUT "Crystal output (not for external usage). NC when XTL_IN is MCLK input", 47 XTL_IN (in) "Crystal or clock input (MCLK input)"
part B pins: 2 AVDD2 (power) "Analog supply for PLL", 5 AVSS2 (power) "Analog ground for PLL", 12 DVDD1 (power) "Digital voltage supply for logic", 13 DVSS1 (power) "Digital ground for logic", 14 DVDD1 (power) "Digital voltage supply for logic", 15 DVSS1 (power) "Digital ground for logic", 24 DVSS3_R (power) "Digital ground for PWM output (right)", 25 DVDD3_R (power) "Digital voltage supply for PWM output (right)", 30 DVSS2 (power) "Digital ground for PWM reclocking", 31 DVDD2 (power) "Digital voltage supply for PWM reclocking", 36 DVDD3_L (power) "Digital voltage supply for PWM output (left)", 37 DVSS3_L (power) "Digital ground for PWM output (left)", 44 AVSS1 (power) "Analog ground for oscillator", 48 AVDD1 (power) "Analog supply for oscillator"

## TAS5012PFBRG4
designator U?
Digital Audio PWM Processor, 0 to 70 degC, 48-pin QFP (PFB48), Green (RoHS & no Sb/Br); Manufacturer: Texas Instruments; PartNumber: TAS5012PFBRG4; Audio Output Channels (PWM)(#): 2; Data Resolution: 16, 20, 24; Digital Input: TRUE; Digital Supply (up to 5 V)(Max)(V): 3.6; Digital Supply (up to 5 V)(Min)(V): 3; Dynamic Range(dB): 102; Fs(Max)(kHz): 192; Fs(Min)(kHz): 32; Mute: Yes; Serial Interface: I2S, R, L, DSP; DatasheetVersion: SLES006A; PackageVersion: 4073176/B, 10/1996; PackageReference: PFB48; PackageDescription: 48-Pin Plastic Flat Pack, Body 7 x 7 mm, Pitch 0.5 mm; Supplier 1: Digi-Key; Supplier Part Number 1: TAS5012PFBRG4-ND; Supplier 2: Mouser; Supplier Part Number 2: 595-TAS5012PFBRG4; Eco-Plan: Green (RoHS & no Sb/Br); Loudness Compensation: No; Output: PWM; PurePath: TRUE; SubFamily: PWM Processor; Mounting Technology: Surface Mount; Code_JEDEC: MS-026; ComponentLink1Description: Manufacturer URL; ComponentLink1URL: http://www.ti.com/; ComponentLink2Description: Datasheet; ComponentLink2URL: http://www.ti.com/general/docs/lit/getliterature.tsp?genericPartNumber=TAS5012&fileType=pdf; ComponentLink3Description: Package Specification; ComponentLink3URL: http://www.ti.com/lit/ml/mtqf019a/mtqf019a.pdf
footprint TI-PFB48_N (QFP, 48-Leads, Body 7x7mm, Pitch 0.5mm, IPC Medium Density)
footprint TI-PFB48_L (QFP, 48-Leads, Body 7x7mm, Pitch 0.5mm, IPC High Density)
footprint TI-PFB48_M (QFP, 48-Leads, Body 7x7mm, Pitch 0.5mm, IPC Low Density)
part A pins: 1 MCLK_IN (in) "MCLK input", 3 PLL_FLT_OUT (out) "Output terminal for external PLL filter", 4 PLL_FLT_RET (in) "Return for external PLL filter", 6 NC "No connection", 7 ~{RESET} (in) "Reset (active low)", 8 ~{PDN} (in) "Power down, active low", 9 VALID_R (out) "PWM right outputs valid (active high)", 10 M_S (in) "Master/slave, master=1, slave=0", 11 NC "No connection", 16 MCLK_OUT (out) "Buffered system clock output if M_S = 1; otherwise set to 0", 17 SCLK (io) "Shift clock (input when M_S = 0, output when M_S = 1)", 18 LRCLK (io) "Left/right clock (input when M_S = 0; output when M_S = 1)", 19 SDIN (in) "Stereo serial audio data input", 20 MOD2 (in) "Serial interface selection pin, bit 2 (MSB)", 21 MOD1 (in) "Serial interface selection pin, bit 1", 22 MOD0 (in) "Serial interface selection pin, bit 0", 23 VALID_L (out) "PWM left outputs valid (active high)", 26 PWM_BP_R (out) "PWM right output B (differential +)", 27 PWM_BM_R (out) "PWM right output B (differential -)", 28 PWM_AM_R (out) "PWM right output A (differential -)", 29 PWM_AP_R (out) "PWM right output A (differential +)", 32 PWM_BP_L (out) "PWM left output B (differential +)", 33 PWM_BM_L (out) "PWM left output B (differential -)", 34 PWM_AM_L (out) "PWM left output A (differential -)", 35 PWM_AP_L (out) "PWM left output A (differential +)", 38 ~{MUTE} (in) "Muted signal = 0, normal mode = 1", 39 DBSPD (in) "Indicates sample rate is double speed (88.2 kHz or 96 kHz), active high", 40 STEST (in) "Tied to DVSS1 for normal operation", 41 FTEST (in) "Tied to DVSS1 for normal operation", 42 DEM_SEL (in) "De-emphasis select (0 = 44.1 kHz, 1 = 48 kHz)", 43 DEM_EN (in) "De-emphasis enable, active high", 45 OSC_CAP "Oscillator cap return", 46 XTL_OUT "Crystal output (not for external usage). NC when XTL_IN is MCLK input", 47 XTL_IN (in) "Crystal or clock input (MCLK input)"
part B pins: 2 AVDD2 (power) "Analog supply for PLL", 5 AVSS2 (power) "Analog ground for PLL", 12 DVDD1 (power) "Digital voltage supply for logic", 13 DVSS1 (power) "Digital ground for logic", 14 DVDD1 (power) "Digital voltage supply for logic", 15 DVSS1 (power) "Digital ground for logic", 24 DVSS3_R (power) "Digital ground for PWM output (right)", 25 DVDD3_R (power) "Digital voltage supply for PWM output (right)", 30 DVSS2 (power) "Digital ground for PWM reclocking", 31 DVDD2 (power) "Digital voltage supply for PWM reclocking", 36 DVDD3_L (power) "Digital voltage supply for PWM output (left)", 37 DVSS3_L (power) "Digital ground for PWM output (left)", 44 AVSS1 (power) "Analog ground for oscillator", 48 AVDD1 (power) "Analog supply for oscillator"

## TAS5028PAG
designator U?
8 Channel Digital Audio PWM Processor, 0 to 70 degC, 64-pin QFP (PAG64), Green (RoHS & no Sb/Br); Manufacturer: Texas Instruments; PartNumber: TAS5028PAG; Audio Output Channels (PWM)(#): 8; Bass/Treble Tone Control: Yes; Data Resolution: 16, 20, 24; Digital Input: TRUE; Digital Supply (up to 5 V)(Max)(V): 3.6; Digital Supply (up to 5 V)(Min)(V): 3; Dynamic Range(dB): 102; Fs(Max)(kHz): 192; Fs(Min)(kHz): 32; Input / Output Channel Mux: Yes / Yes; Serial Interface: I2S, R, L; DatasheetVersion: SLES112; PackageVersion: 4040282/C, 11/1996; PackageReference: PAG64; PackageDescription: 64-Pin Plastic Flat Pack, Body 10 x 10 mm, Pitch 0.50 mm; Supplier 1: Digi-Key; Supplier Part Number 1: 296-17116-ND; Supplier 2: Mouser; Supplier Part Number 2: 595-TAS5028PAG; Eco-Plan: Green (RoHS & no Sb/Br); Loudness Compensation: No; Mute: Yes; Output: PWM; PurePath: TRUE; SubFamily: PWM Processor; Volume Control: Yes; Mounting Technology: Surface Mount; Code_JEDEC: MS-026; ComponentLink1Description: Manufacturer URL; ComponentLink1URL: http://www.ti.com/; ComponentLink2Description: Datasheet; ComponentLink2URL: http://www.ti.com/general/docs/lit/getliterature.tsp?genericPartNumber=TAS5028&fileType=pdf; ComponentLink3Description: Package Specification; ComponentLink3URL: http://www.ti.com/lit/ml/mtqf006a/mtqf006a.pdf
footprint TI-PAG64_N (QFP, 64-Leads, Body 10x10mm, Pitch 0.5mm, IPC Medium Density)
footprint TI-PAG64_L (QFP, 64-Leads, Body 10x10mm, Pitch 0.5mm, IPC High Density)
footprint TI-PAG64_M (QFP, 64-Leads, Body 10x10mm, Pitch 0.5mm, IPC Low Density)
part A pins: 2 PLL_FLT_RET (in) "PLL external filter return", 3 PLL_FLTM "PLL negative input. Connected to PLL_FLT_RTN via an RC network", 4 PLL_FLTP "PLL positive input. Connected to PLL_FLT_RTN via an RC network", 10 VBGAP (power) "Band gap voltage reference. A pin-out of the internally regulated 1.2-V reference. Typically has a 1-nF low ESR capacitor between VBGAP and AVSS_PLL. This terminal must not be used to power external devices.", 11 ~{RESET} (in) "System reset input, active low. A system reset is generated by applying a logic low to this terminal. R\E\S\E\T\ is an asynchronous control signal that restores the TAS5028 to its default conditions, sets the valid output (See Datasheet)", 12 ~{HP_SEL} (in) "Headphone in/out selector. When a logic low is applied, the headphone is selected(speakers are off). When a logic high is applied, speakers are selected -headphone is off.", 13 ~{PDN} (in) "Power down, active low. PDN powers down all logic and stops all clocks whenever a logic low is applied. The internal parameters are preserved through a power down cycle, as long as a RESET is not active. The duration for (See Datasheet)", 14 ~{MUTE} (in) "Soft mute of outputs, active low (Muted signal = a logic low, normal operation = a logic high) The mute control provides a noiseless volume ramp to silence. Releasing mute provides a noiseless ramp to previous volume.", 18 OSC_CAP "Oscillator capacitor", 19 XTL_OUT "XTL_OUT and XTL_IN are the only LVCMOS terminals on the device. They provide a reference clock for the TAS5028 via use of an external fundamental mode crystal. XTL_OUT is the 1.8-V output drive to the crystal. See Note 4 for (See Datasheet)", 20 XTL_IN "XTL_OUT and XTL_IN are the only LVCMOS terminals on the device. They provide a reference clock for the TAS5028 via use of an external fundamental mode crystal. XTL_IN is the 1.8-V input port for the oscillator circuit. See (See Datasheet)", 21 RESERVED (power) "Connect to digital ground", 22 RESERVED (power) "Connect to digital ground", 23 RESERVED (power) "Connect to digital ground", 24 SDA (io) "I2C serial control data interface input / output", 25 SCL (in) "I2C serial control clock input output", 26 LRCLK (in) "Serial audio data left / right clock (sampling rate clock)", 27 SCLK (in) "Serial audio data clock (shift clock) SCLKIN is the serial audio port (SAP) input data bit clock that is supplied to the serial bit clock to other I2S bus.", 28 SDIN4 (in) "Serial audio data 4 input is one of the serial data input ports. SDIN4 supports four discrete (stereo) data formats and is capable of inputting data at 64 Fs.", 29 SDIN3 (in) "Serial audio data 3 input is one of the serial data input ports. SDIN3 supports four discrete (stereo) data formats and is capable of inputting data at 64 Fs.", 30 SDIN2 (in) "Serial audio data 2 input is one of the serial data input ports. SDIN2 supports four discrete (stereo) data formats and is capable of inputting data at 64 Fs.", 31 SDIN1 (in) "Serial audio data 1 input is one of the serial data input ports. SDIN1 supports four discrete (stereo) data formats and is capable of inputting data at 64 Fs.", 32 RESERVED (power), 37 ~{BKND_ERR} (in) "Active low. A backend error sequence is generated by applying logic low to this terminal. The B\K\N\D\_\E\R\R\ results in all system parameters unaffected, while all H-bridge drive signals going to a hard mute (M) state.", 39 VALID (out) "Output indicating validity of PWM outputs active high", 40 PWM_M_1 (out) "PWM 1 output (differential - )", 41 PWM_P_1 (out) "PWM 1 output (differential +)", 42 PWM_M_2 (out) "PWM 2 output (differential - )", 43 PWM_P_2 (out) "PWM 2 output (differential +)", 44 PWM_M_3 (out) "PWM 3 output (differential - )", 45 PWM_P_3 (out) "PWM 3 output (differential +)", 46 PWM_M_4 (out) "PWM 4 output (differential - )", 47 PWM_P_4 (out) "PWM 4 output (differential +)", 49 PWM_M_7 (out) "PWM 7 (Line out L) output (differential - )", 50 PWM_P_7 (out) "PWM 7 (Line out L) output (differential +)", 51 PWM_M_8 (out) "PWM 8 (Line out R) output (differential - )", 52 PWM_P_8 (out) "PWM 8 (Line out R) output (differential +)", 55 PWM_M_5 (out) "PWM 5 output (differential - )", 56 PWM_P_5 (out) "PWM 5 output (differential +)", 57 PWM_M_6 (out) "PWM 6 output (differential - )", 58 PWM_P_6 (out) "PWM 6 output (differential +)", 59 PWM_HPML (out) "PWM left channel headphone (differential - )", 60 PWM_HPPL (out) "PWM left channel headphone (differential +)", 61 PWM_HPMR (out) "PWM right channel headphone (differential - )", 62 PWM_HPPR (out) "PWM right channel headphone (differential +)", 63 MCLK (in) "MCLK is a 3.3-V clock master clock input. The input frequency of this clock can range from 4 MHz to 50 MHz.", 64 RESERVED (power) "Connect to digital ground"
part B pins: 1 VRA_PLL (power) "Voltage reference for PLL analog supply 1.8 V. A pin-out of the internally regulated 1.8-V power used by PLL logic. A 0.1-uF low ESR capacitor should be connected between this terminal and AVSS_PLL. This terminal must not be (See Datasheet)", 5 AVSS (power) "Analog ground", 6 AVSS (power) "Analog ground", 7 VRD_PLL (power) "Voltage reference for PLL digital supply 1.8 V. A pin-out of the internally regulated 1.8-V power used by PLL logic. A 0.1-uF low ESR capacitor should be connected between this terminal and AVSS_PLL. This terminal must not (See Datasheet)", 8 AVSS_PLL (power) "Analog ground for PLL. This terminal should reference the same ground as power terminal DVSS, but to achieve low PLL jitter; ground noise at this terminal must be minimized. The availability of the AVSS terminal allows a (See Datasheet)", 9 AVDD_PLL (power) "3.3-V analog power supply for PLL This terminal can be connected to the same power source used to drive power terminal DVSS, but to achieve low PLL jitter, this terminal should be bypassed to AVSS_PLL with a 0.1-uF low-ESR (See Datasheet)", 15 DVDD (power) "Digital power 3.3-V supply for digital core and most of I/O buffers", 16 DVSS (power) "Digital ground for digital core and most of I/O buffers", 17 VR_DPLL (power) "Voltage reference for digital PLL supply 1.8 V. A pin-out of the internally regulated 1.8-V power used by digital PLL logic. A 0.1-uF low ESR capacitor should be connected between this terminal and DVSS_CORE. This terminal (See Datasheet)", 33 VR_DIG (power) "Voltage reference for digital core supply 1.8 V. A pin-out of the internally regulated 1.8-V power used by digital core logic. A 0.47-uF low ESR capacitor should be connected between this terminal and DVSS. This terminal (See Datasheet)", 34 DVSS (power) "Digital ground", 35 DVSS (power) "Digital ground", 36 DVDD (power) "3.3-V digital power supply", 38 DVSS (power) "Digital ground", 48 VR_PWM (power) "Voltage reference for digital PWM core supply 1.8 V. A pin-out of the internally regulated 1.8-V power used by digital PWM core logic. A 0.1-uF low ESR capacitor should be connected between this terminal and DVSS_PWM. This (See Datasheet)", 53 DVSS_PWM (power) "Digital ground for PWM", 54 DVDD_PWM (power) "3.3-V digital power supply for PWM"